# Altium schematic symbol library OpenPLCv0.2.0_Resistor.SchLib: 16 symbols
Pins are listed as number, name and electrical type; pins without a type are passive.

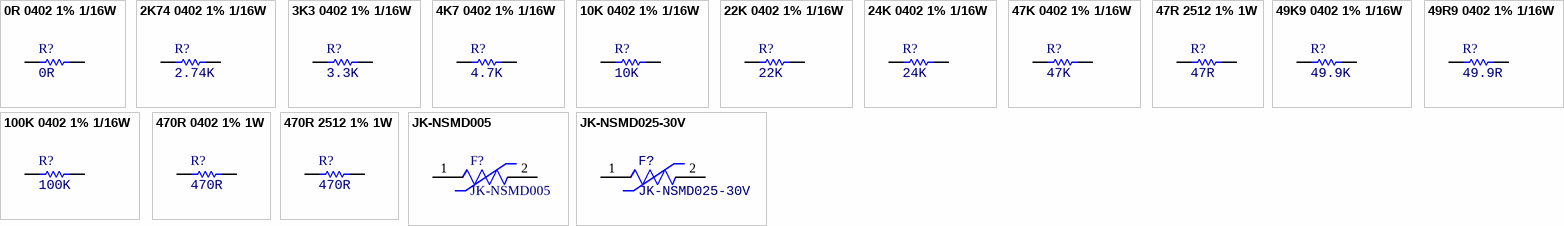
[diagram p0: symbols 0R 0402 1% 1/16W to JK-NSMD025-30V]

## 0R 0402 1% 1/16W
designator R?, comment Resistance: 0R  (hidden comment: RC0402FR-070RL)
0Ω ±1% 1/16W 0402 Chip Resistor - Surface Mount RoHS; Package: 0402; Tolerance: 1%; Power Rating: 1/16W
footprint SMD_RES_0402(1005)_N
pins: 1, 2

## 2K74 0402 1% 1/16W
designator R?, comment Resistance: 2.74K  (hidden comment: RC0402FR-072K74L)
2.74kΩ ±1% 1/16W ±100ppm/℃ 0402 Chip Resistor - Surface Mount RoHS; Package: 0402; Tolerance: 1%; Power Rating: 1/16W
footprint SMD_RES_0402(1005)_N
pins: 1, 2

## 3K3 0402 1% 1/16W
designator R?, comment Resistance: 3.3K  (hidden comment: RC0402FR-073K3L)
3.3kΩ ±1% 1/16W ±100ppm/℃ 0402 Chip Resistor - Surface Mount RoHS; Package: 0402; Tolerance: 1%; Power Rating: 1/16W
footprint SMD_RES_0402(1005)_N
pins: 1, 2

## 4K7 0402 1% 1/16W
designator R?, comment Resistance: 4.7K  (hidden comment: RC0402FR-074K7L)
4.7kΩ ±1% 1/16W ±100ppm/℃ 0402 Chip Resistor - Surface Mount RoHS; Package: 0402; Tolerance: 1%; Power Rating: 1/16W
footprint SMD_RES_0402(1005)_N
pins: 1, 2

## 10K 0402 1% 1/16W
designator R?, comment Resistance: 10K  (hidden comment: RC0402FR-0710KL)
10kΩ ±1% 1/16W ±100ppm/℃ 0402 Chip Resistor - Surface Mount RoHS; Package: 0402; Tolerance: 1%; Power Rating: 1/16W
footprint SMD_RES_0402(1005)_N
pins: 1, 2

## 22K 0402 1% 1/16W
designator R?, comment Resistance: 22K  (hidden comment: RC0402FR-0722KL)
22kΩ ±1% 1/16W ±100ppm/℃ 0402 Chip Resistor - Surface Mount RoHS; Package: 0402; Tolerance: 1%; Power Rating: 1/16W
footprint SMD_RES_0402(1005)_N
pins: 1, 2

## 24K 0402 1% 1/16W
designator R?, comment Resistance: 24K  (hidden comment: RC0402FR-0724KL)
24kΩ ±1% 1/16W ±100ppm/℃ 0402 Chip Resistor - Surface Mount RoHS; Package: 0402; Tolerance: 1%; Power Rating: 1/16W
footprint SMD_RES_0402(1005)_N
pins: 1, 2

## 47K 0402 1% 1/16W
designator R?, comment Resistance: 47K  (hidden comment: RC0402FR-0747KL)
47kΩ ±1% 1/16W ±100ppm/℃ 0402 Chip Resistor - Surface Mount RoHS; Package: 0402; Tolerance: 1%; Power Rating: 1/16W
footprint SMD_RES_0402(1005)_N
pins: 1, 2

## 47R 2512 1% 1W
designator R?, comment Resistance: 47R  (hidden comment: AC2512FK-0747RL)
47Ω ±1% 1W ±100ppm/℃ 2512 Chip Resistor - Surface Mount RoHS; Package: 2512; Tolerance: 1%; Power Rating: 1W
footprint SMD_RES_2512(6432)_N
pins: 1, 2

## 49K9 0402 1% 1/16W
designator R?, comment Resistance: 49.9K  (hidden comment: RC0402FR-0749K9L)
49.9kΩ ±1% 1/16W ±100ppm/℃ 0402 Chip Resistor - Surface Mount RoHS; Package: 0402; Tolerance: 1%; Power Rating: 1/16W
footprint SMD_RES_0402(1005)_N
pins: 1, 2

## 49R9 0402 1% 1/16W
designator R?, comment Resistance: 49.9R  (hidden comment: RC0402FR-0749R9L)
49.9Ω ±1% 1/16W ±100ppm/℃ 0402 Chip Resistor - Surface Mount RoHS; Package: 0402; Tolerance: 1%; Power Rating: 1/16W
footprint SMD_RES_0402(1005)_N
pins: 1, 2

## 100K 0402 1% 1/16W
designator R?, comment Resistance: 100K  (hidden comment: RC0402FR-07100KL)
100kΩ ±1% 1/16W ±100ppm/℃ 0402 Chip Resistor - Surface Mount RoHS; Package: 0402; Tolerance: 1%; Power Rating: 1/16W
footprint SMD_RES_0402(1005)_N
pins: 1, 2

## 470R 0402 1% 1W
designator R?, comment Resistance: 470R  (hidden comment: RC0402FR-07470RL)
470Ω ±1% 1/16W ±100ppm/℃ 0402 Chip Resistor - Surface Mount RoHS; Power Rating: 1W; Package: 0402; Tolerance: 1%
footprint SMD_RES_0402(1005)_N
pins: 1, 2

## 470R 2512 1% 1W
designator R?, comment Resistance: 470R  (hidden comment: AC2512FK-07470RL)
470Ω ±1% 1W ±100ppm/℃ 2512 Chip Resistor - Surface Mount RoHS; Package: 2512; Tolerance: 1%; Power Rating: 1W
footprint SMD_RES_2512(6432)_N
pins: 1, 2

## JK-NSMD005
designator F?
60V 150mA 1.5s 1206 PTC Resettable Fuses RoHS
footprint SMD_RES_1206(3216)_N
pins: 1, 2

## JK-NSMD025-30V
designator F?
Polymeric 30V 500mA 0.08s 700mΩ 1206 PTC Resettable Fuses RoHS
footprint SMD_RES_1206(3216)_N
pins: 1, 2